# Altium footprint library Inductance.PcbLib: 4 footprints
Each footprint in its own frame and in the unit in brackets; x right, y up, seen from the top. Pads: shape width x height; smd on the part's side, far side on the other; paste and mask are expansions set on the pad; w line width, h text height; cw(c..) or ccw(c..) is an arc to the next point about the centre after c.
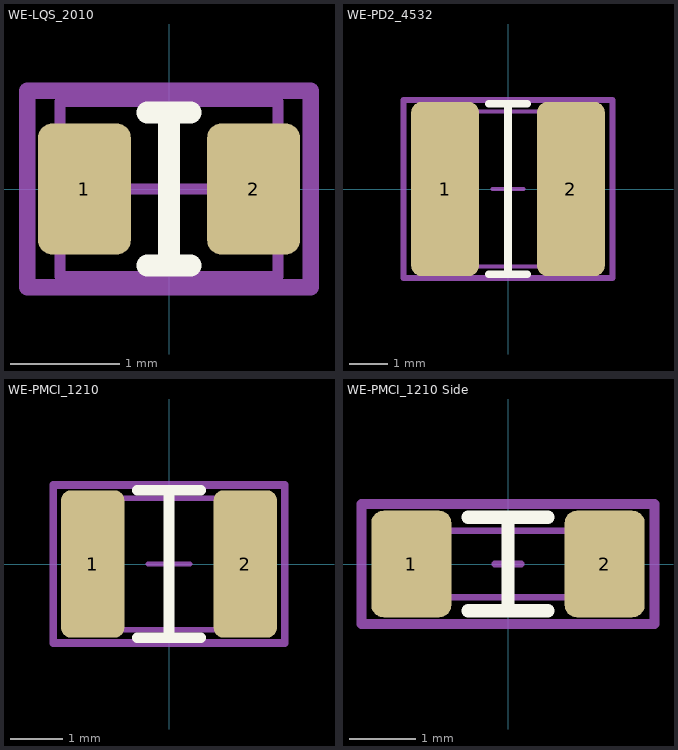
[diagram p0: the footprints below, top view; thin cyan lines are the x and y axes]

## WE-LQS_2010 [mm] "SMD Power Inductor, 2-Leads, body 2x1.6mm"
height 1
pads (2):
  rrect30% 0.85x1.2 smd: 1(-0.775,0) 2(0.775,0)
Top Overlay:
  lines w0.2: -0.2,-0.7 0.2,-0.7 ; -0.2,0.7 0.2,0.7 ; 0,-0.7 0,0.7
Mechanical 13:
  lines w0.1: -1,-0.8 -1,0.8 1,0.8 1,-0.8 -1,-0.8
Mechanical 15:
  lines w0.1: -0.4,0 0.4,0 ; 0,-0.4 0,0.4
  lines w0.15: -1.3,-0.9 -1.3,0.9 1.3,0.9 1.3,-0.9 -1.3,-0.9
Mechanical 17 (Mech17):
  text ".Designator" at -0.4,-0.2 h1.5
3D body "IndLQS_2010.stp": height 1.01, standoff 0.01, extent -1,-0.8 1,0.824

## WE-PD2_4532 [mm] "SMD Power Inductor, body 4.5x4.0"
height 3.2
pads (2):
  rrect30% 1.75x4.5 smd: 1(-1.625,0) 2(1.625,0)
Top Overlay:
  lines w0.2: -0.5,-2.2 0.5,-2.2 ; -0.5,2.2 0.5,2.2 ; 0,-2.2 0,2.2
Mechanical 13:
  lines w0.1: -2.25,-2 -2.25,2 2.25,2 2.25,-2 -2.25,-2
Mechanical 15:
  lines w0.1: -0.4,0 0.4,0 ; 0,-0.4 0,0.4
  lines w0.15: -2.7,-2.3 2.7,-2.3 2.7,2.3 -2.7,2.3 -2.7,-2.3
Mechanical 17 (Mech17):
  text ".Designator" at -0.4,-0.2 h1.5
3D body "IndPD2_4532_744773xx.stp": height 3.23, standoff 0.05, extent -2.25,-2 2.25,2

## WE-PMCI_1210 [mm] "WE-PMCI WE-PMCI Power Molded Chip Inductor, 1210"
height 1
pads (2):
  rrect30% 1.2x2.8 smd: 1(-1.45,0) 2(1.45,0)
Top Overlay:
  lines w0.2: -0.6,-1.4 0.6,-1.4 ; -0.6,1.4 0.6,1.4 ; 0,-1.4 0,1.4
Mechanical 13:
  lines w0.1: -1.6,-1.25 1.6,-1.25 1.6,1.25 -1.6,1.25 -1.6,-1.25
Mechanical 15:
  lines w0.1: -0.4,0 0.4,0 ; 0,-0.4 0,0.4
  lines w0.15: -2.2,-1.5 2.2,-1.5 2.2,1.5 -2.2,1.5 -2.2,-1.5
Mechanical 17 (Mech17):
  text ".Designator" at -0.4,-0.2 h1.5
3D body "74479298xxx_1210.stp": height 1.02, standoff 0.02, extent -1.6,-1.25 1.6,1.25

## WE-PMCI_1210 Side [mm] "WE-PMCI WE-PMCI Power Molded Chip Inductor, 1210 mounted on edge (manual soldering)"
height 2.5
pads (2):
  rrect30% 1.2x1.6 smd: 1(-1.45,0) 2(1.45,0)
Top Overlay:
  lines w0.2: -0.6,-0.7 0.6,-0.7 ; -0.6,0.7 0.6,0.7 ; 0,-0.7 0,0.7
Mechanical 13:
  lines w0.1: -1.6,-0.5 -1.6,0.5 1.6,0.5 1.6,-0.5 -1.6,-0.5
Mechanical 15:
  lines w0.1: -0.2,0 0.2,0 ; 0,-0.2 0,0.2
  lines w0.15: -2.2,-0.9 -2.2,0.9 2.2,0.9 2.2,-0.9 -2.2,-0.9
Mechanical 17 (Mech17):
  text ".Designator" at -0.7,-0.3 h1
3D body "74479298xxx_1210.stp": height 2.52, standoff 0.02, extent -1.6,-0.5 1.6,0.5